# Altium schematic symbol library SW-DPST.Schlib: 1 symbol
Pins are listed as number, name and electrical type; pins without a type are passive.

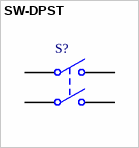
[diagram p0: symbol SW-DPST]

## SW-DPST
designator S?
Double-Pole, Single-Throw Switch
pins: 1 COMMON1, 2 NO1, 3 COMMON2, 4 NO2